# EAGLE library part SAMACSYS_PARTS_DS3231SN (library Node)
Real Time Clock Serial Maxim DS3231SN Real Time Clock, Battery Backup, Calendar, Clock, I2C, 5.5 V, 16-Pin SOIC Source: Datasheet <https://datasheets.maximintegrated.com/en/ds/DS3231.pdf>
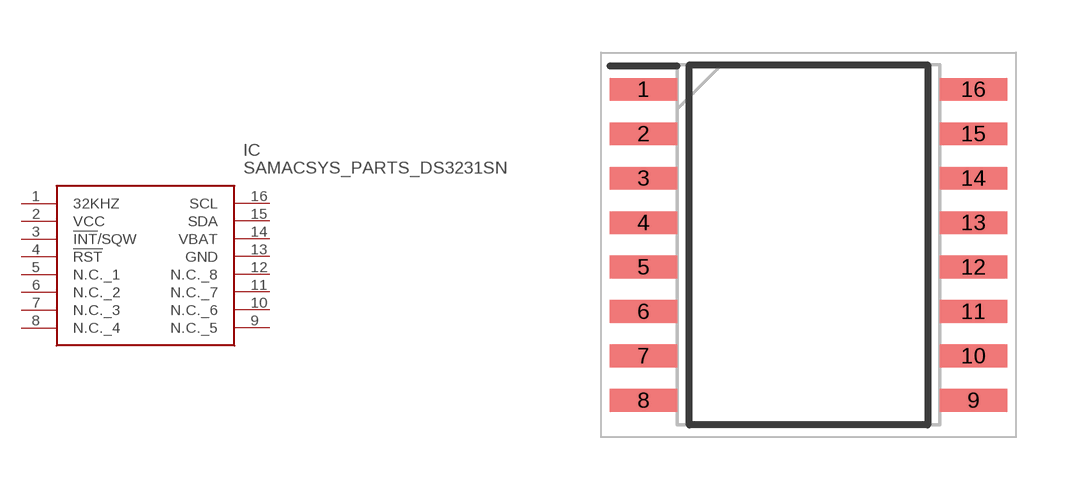
[diagram p2: symbol with the pads of SAMACSYS_PARTS_SOIC127P1032X265-16N; footprint SAMACSYS_PARTS_SOIC127P1032X265-16N]

Designator prefix IC

## SAMACSYS_PARTS_DS3231SN (DESCRIPTION: Real Time Clock Serial Maxim DS3231SN Real Time Clock, Battery Backup, Calendar, Clock, I2C, 5.5 V, 16-Pin SOIC; HEIGHT: 2.65mm; MANUFACTURER_NAME: Maxim Integrated; MANUFACTURER_PART_NUMBER: DS3231SN; MOUSER_PART_NUMBER: 700-DS3231SN; MOUSER_PRICE-STOCK: https://www.mouser.co.uk/ProductDetail/Maxim-Integrated/DS3231SN/?qs=1eQvB6Dk1vhUlr8%2FOrV0Fw%3D%3D)  [SAMACSYS_PARTS_SOIC127P1032X265-16N]
1  32KHZ
2  VCC
3  !INT!/SQW
4  !RST
5  N.C._1
6  N.C._2
7  N.C._3
8  N.C._4
9  N.C._5
10  N.C._6
11  N.C._7
12  N.C._8
13  GND
14  VBAT
15  SDA
16  SCL

## Footprint SAMACSYS_PARTS_SOIC127P1032X265-16N (pad centres in mm)
so 16
smd 1.925 x 0.65: 1 -4.712,4.445; 2 -4.712,3.175; 3 -4.712,1.905; 4 -4.712,0.635; 5 -4.712,-0.635; 6 -4.712,-1.905; 7 -4.712,-3.175; 8 -4.712,-4.445; 9 4.712,-4.445; 10 4.712,-3.175; 11 4.712,-1.905; 12 4.712,-0.635; 13 4.712,0.635; 14 4.712,1.905; 15 4.712,3.175; 16 4.712,4.445